# Altium schematic symbol library goodfet22a.SchLib: 3 symbols
Pins are listed as number, name and electrical type; pins without a type are passive.

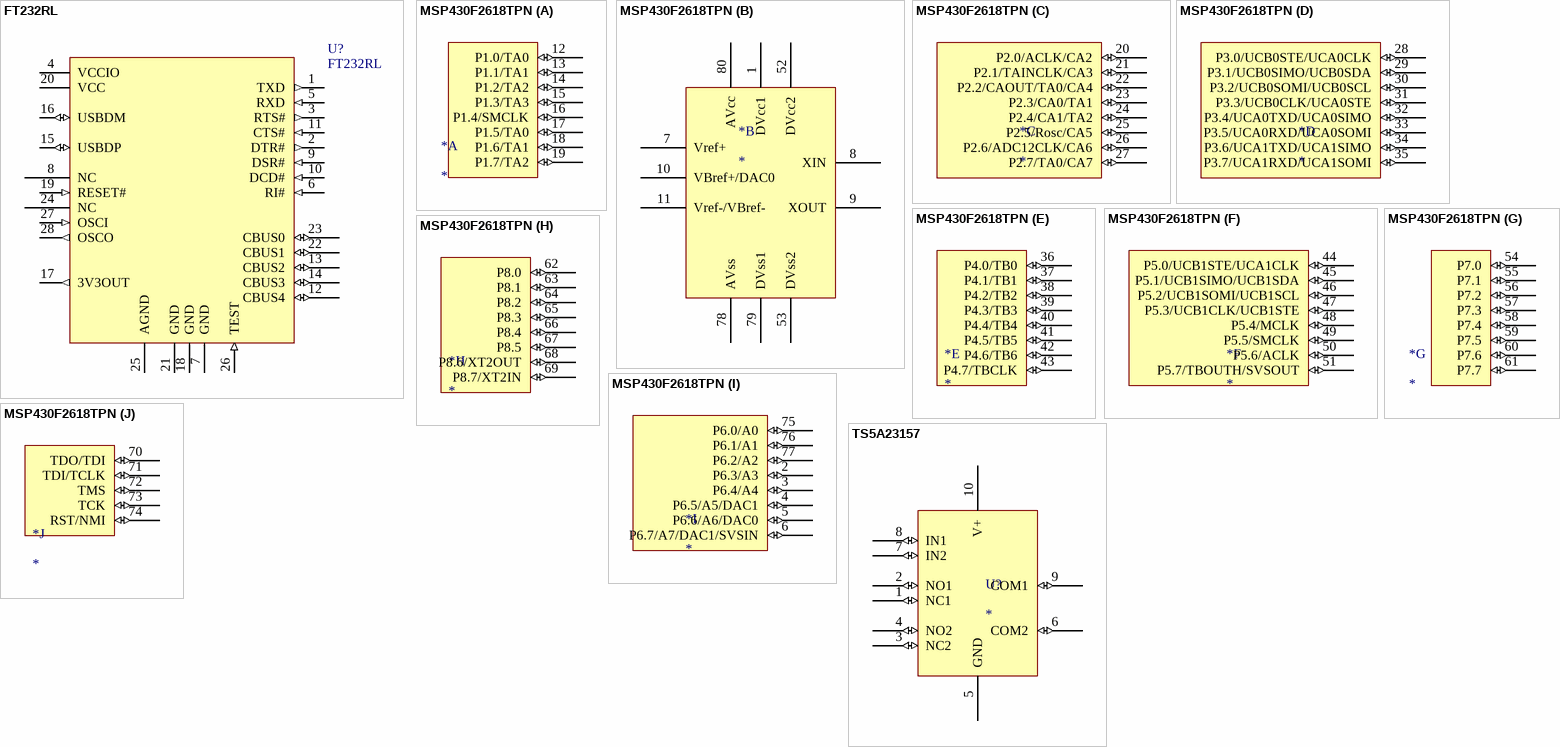
[diagram p0: symbols FT232RL to TS5A23157]

## FT232RL
designator U?
USB UART Asynchronous Serial Data Transfer Chip, LQFP-32, Pb-Free; Published: 6-Oct-2005; LatestRevisionDate: 13-Apr-2006; LatestRevisionNote: IPC-7351 Footprint Added.; DatasheetVersion: ver 1.7, Feb-2005; PackageVersion: Mar-2004; PackageReference: LQFP-32; Publisher: Altium Limited; PackageDescription: 32-Pin Thin Quad Flat Pack 0.8 mm Pitch; ComponentLink1Description: Manufacturer Link; ComponentLink1URL: http://www.ftdichip.com/Products/FT232BM.htm; ComponentLink2Description: Datasheet; ComponentLink2URL: http://www.ftdichip.com/Documents/DataSheets/ds232bl17.pdf
pins: 1 TXD (out), 2 DTR# (out), 3 RTS# (out), 4 VCCIO (power), 5 RXD (in), 6 RI# (in), 7 GND (power), 8 NC, 9 DSR# (in), 10 DCD# (in), 11 CTS# (in), 12 CBUS4 (io), 13 CBUS2 (io), 14 CBUS3 (io), 15 USBDP (io), 16 USBDM (io), 17 3V3OUT (out), 18 GND (power), 19 RESET# (in), 20 VCC (power), 21 GND (power), 22 CBUS1 (io), 23 CBUS0 (io), 24 NC, 25 AGND (power), 26 TEST (in), 27 OSCI (in), 28 OSCO (out)

## MSP430F2618TPN
designator *
part A pins: 12 P1.0/TA0 (io), 13 P1.1/TA1 (io), 14 P1.2/TA2 (io), 15 P1.3/TA3 (io), 16 P1.4/SMCLK (io), 17 P1.5/TA0 (io), 18 P1.6/TA1 (io), 19 P1.7/TA2 (io)
part B pins: 1 DVcc1 (power), 7 Vref+ (power), 8 XIN, 9 XOUT, 10 VBref+/DAC0 (power), 11 Vref-/VBref- (power), 52 DVcc2 (power), 53 DVss2 (power), 78 AVss (power), 79 DVss1 (power), 80 AVcc (power)
part C pins: 20 P2.0/ACLK/CA2 (io), 21 P2.1/TAINCLK/CA3 (io), 22 P2.2/CAOUT/TA0/CA4 (io), 23 P2.3/CA0/TA1 (io), 24 P2.4/CA1/TA2 (io), 25 P2.5/Rosc/CA5 (io), 26 P2.6/ADC12CLK/CA6 (io), 27 P2.7/TA0/CA7 (io)
part D pins: 28 P3.0/UCB0STE/UCA0CLK (io), 29 P3.1/UCB0SIMO/UCB0SDA (io), 30 P3.2/UCB0SOMI/UCB0SCL (io), 31 P3.3/UCB0CLK/UCA0STE (io), 32 P3.4/UCA0TXD/UCA0SIMO (io), 33 P3.5/UCA0RXD/UCA0SOMI (io), 34 P3.6/UCA1TXD/UCA1SIMO (io), 35 P3.7/UCA1RXD/UCA1SOMI (io)
part E pins: 36 P4.0/TB0 (io), 37 P4.1/TB1 (io), 38 P4.2/TB2 (io), 39 P4.3/TB3 (io), 40 P4.4/TB4 (io), 41 P4.5/TB5 (io), 42 P4.6/TB6 (io), 43 P4.7/TBCLK (io)
part F pins: 44 P5.0/UCB1STE/UCA1CLK (io), 45 P5.1/UCB1SIMO/UCB1SDA (io), 46 P5.2/UCB1SOMI/UCB1SCL (io), 47 P5.3/UCB1CLK/UCB1STE (io), 48 P5.4/MCLK (io), 49 P5.5/SMCLK (io), 50 P5.6/ACLK (io), 51 P5.7/TBOUTH/SVSOUT (io)
part G pins: 54 P7.0 (io), 55 P7.1 (io), 56 P7.2 (io), 57 P7.3 (io), 58 P7.4 (io), 59 P7.5 (io), 60 P7.6 (io), 61 P7.7 (io)
part H pins: 62 P8.0 (io), 63 P8.1 (io), 64 P8.2 (io), 65 P8.3 (io), 66 P8.4 (io), 67 P8.5 (io), 68 P8.6/XT2OUT (io), 69 P8.7/XT2IN (io)
part I pins: 2 P6.3/A3 (io), 3 P6.4/A4 (io), 4 P6.5/A5/DAC1 (io), 5 P6.6/A6/DAC0 (io), 6 P6.7/A7/DAC1/SVSIN (io), 75 P6.0/A0 (io), 76 P6.1/A1 (io), 77 P6.2/A2 (io)
part J pins: 70 TDO/TDI (io), 71 TDI/TCLK (io), 72 TMS (io), 73 TCK (io), 74 RST/NMI (io)

## TS5A23157
designator U?
pins: 1 NC1 (io), 2 NO1 (io), 3 NC2 (io), 4 NO2 (io), 5 GND (power), 6 COM2 (io), 7 IN2 (io), 8 IN1 (io), 9 COM1 (io), 10 V+ (power)